# Altium footprint library C0805_1.45MM_MD_2.PcbLib: 1 footprints
Each footprint in its own frame and in the unit in brackets; x right, y up, seen from the top. Pads: shape width x height; smd on the part's side, far side on the other; paste and mask are expansions set on the pad; w line width, h text height; cw(c..) or ccw(c..) is an arc to the next point about the centre after c.
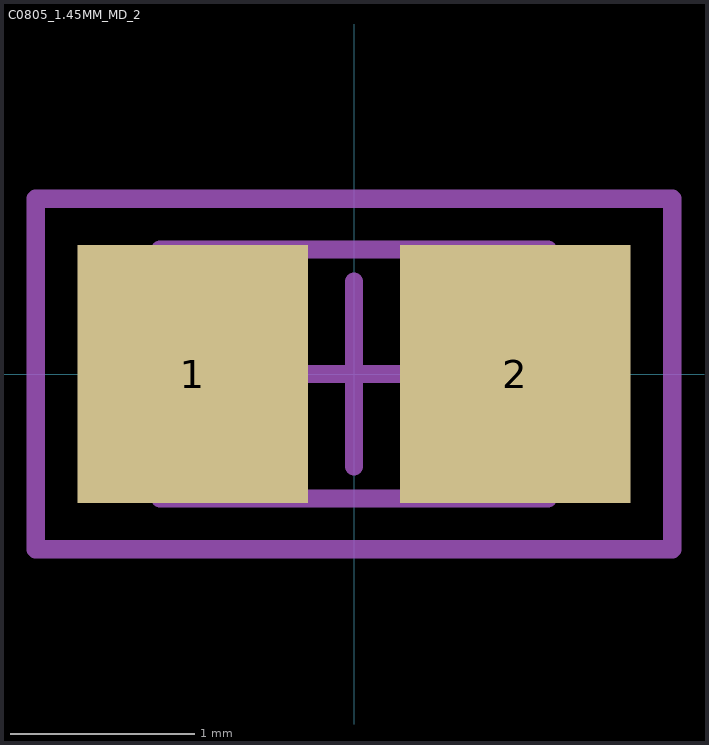
[diagram p0: the footprint, top view; thin cyan lines are the x and y axes]

## C0805_1.45MM_MD_2 [mm]
pads (2):
  rect 1.25x1.4 smd: 1(-0.875,0) 2(0.875,0)
Mechanical 13:
  lines w0.1: -1.05,-0.675 1.05,-0.675 1.05,0.675 -1.05,0.675 -1.05,-0.675
Mechanical 15:
  lines w0.1: -0.5,0 0.5,0 ; 0,-0.5 0,0.5 ; -1.725,-0.95 1.725,-0.95 1.725,0.95 -1.725,0.95 -1.725,-0.95
3D body "0805_1.45mm.STEP": height 1.45, standoff 0, extent -1,-0.625 1,0.625